# Altium footprint library ERA6ARB102P.PcbLib: 3 footprints
Each footprint in its own frame and in the unit in brackets; x right, y up, seen from the top. Pads: shape width x height; smd on the part's side, far side on the other; paste and mask are expansions set on the pad; w line width, h text height; cw(c..) or ccw(c..) is an arc to the next point about the centre after c.
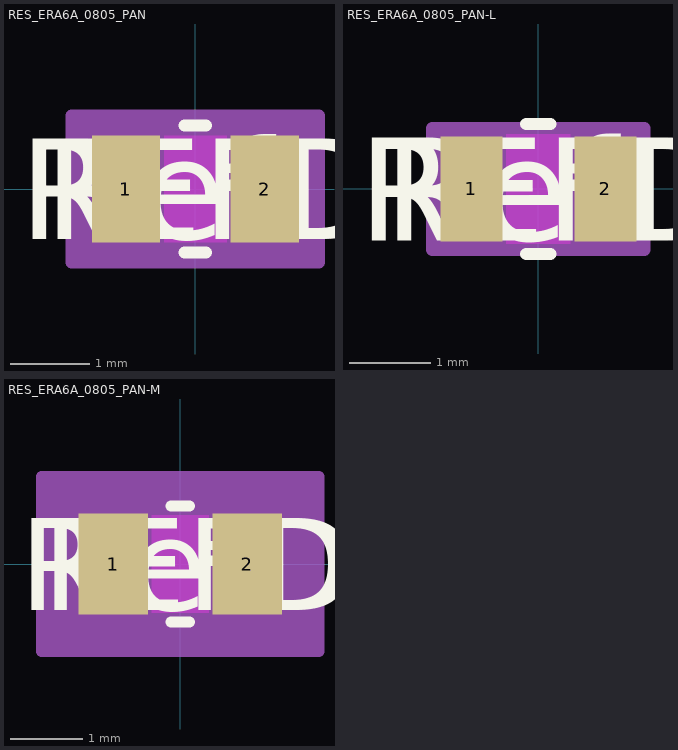
[diagram p0: the footprints below, top view; thin cyan lines are the x and y axes]

## RES_ERA6A_0805_PAN [mil]
pads (2):
  rect 33.87x53 smd paste+0 mask+0: 1(-34.44,0) 2(34.44,0)
Top Layer keep-out:
  region: -15.5,-24.5 -15.5,24.5 15.5,24.5 15.5,-24.5
Top Overlay:
  lines w6: -5.39,-31.5 5.39,-31.5 ; -5.39,31.5 5.39,31.5
  text "RefDes" at -75,-25 h50
  text "REFDES" at -87.5,-25 h50
Keep-Out Layer:
  region: -15.5,-26.5 -15.5,26.5 15.5,26.5 15.5,-26.5
Mechanical 13:
  lines w1: -43.5,-26.5 -43.5,26.5 ; -43.5,-26.5 -17.5,-26.5 -17.5,26.5 -43.5,26.5 ; -43.5,-26.5 43.5,-26.5 ; -43.5,-26.5 -43.5,26.5 ; -43.5,26.5 43.5,26.5 ; 43.5,-26.5 17.5,-26.5 17.5,26.5 43.5,26.5 ; 43.5,-26.5 43.5,26.5 ; 43.5,-26.5 43.5,26.5
  text "RefDes2" at -87.5,-25 h50
Mechanical 15:
  region: 61.37,-36.5 -61.37,-36.5 -61.37,36.5 61.37,36.5
  lines w6: -61.37,-36.5 -61.37,36.5 61.37,36.5 61.37,-36.5 -61.37,-36.5
3D body "RES_ERA6A_0805_PAN.step": height 24.02, standoff 0, extent -43.5,-26.5 43.5,26.5

## RES_ERA6A_0805_PAN-L [mil]
pads (2):
  rect 29.94x51.03 smd paste+0 mask+0: 1(-32.47,0) 2(32.47,0)
Top Layer keep-out:
  region: -15.5,-24.5 -15.5,24.5 15.5,24.5 15.5,-24.5
Top Overlay:
  lines w6: -5.85,-31.5 5.85,-31.5 ; -5.85,31.5 5.85,31.5
  text "RefDes" at -75,-25 h50
  text "REFDES" at -87.5,-25 h50
Keep-Out Layer:
  region: -15.5,-26.5 -15.5,26.5 15.5,26.5 15.5,-26.5
Mechanical 13:
  lines w1: -43.5,-26.5 -43.5,26.5 ; -43.5,-26.5 -17.5,-26.5 -17.5,26.5 -43.5,26.5 ; -43.5,-26.5 43.5,-26.5 ; -43.5,-26.5 -43.5,26.5 ; -43.5,26.5 43.5,26.5 ; 43.5,-26.5 17.5,-26.5 17.5,26.5 43.5,26.5 ; 43.5,-26.5 43.5,26.5 ; 43.5,-26.5 43.5,26.5
  text "RefDes2" at -87.5,-25 h50
Mechanical 15:
  region: 51.44,-29.52 -51.44,-29.52 -51.44,29.52 51.44,29.52
  lines w6: -51.44,-29.52 -51.44,29.52 51.44,29.52 51.44,-29.52 -51.44,-29.52
3D body "RES_ERA6A_0805_PAN.step": height 24.02, standoff 0, extent -43.5,-26.5 43.5,26.5

## RES_ERA6A_0805_PAN-M [mil]
pads (2):
  rect 37.81x54.97 smd paste+0 mask+0: 1(-36.41,0) 2(36.41,0)
Top Layer keep-out:
  region: -15.5,-24.5 -15.5,24.5 15.5,24.5 15.5,-24.5
Top Overlay:
  lines w6: -5.03,-31.5 5.03,-31.5 ; -5.03,31.5 5.03,31.5
  text "RefDes" at -75,-25 h50
  text "REFDES" at -87.5,-25 h50
Keep-Out Layer:
  region: -15.5,-26.5 -15.5,26.5 15.5,26.5 15.5,-26.5
Mechanical 13:
  lines w1: -43.5,-26.5 -43.5,26.5 ; -43.5,-26.5 -17.5,-26.5 -17.5,26.5 -43.5,26.5 ; -43.5,-26.5 43.5,-26.5 ; -43.5,-26.5 -43.5,26.5 ; -43.5,26.5 43.5,26.5 ; 43.5,-26.5 17.5,-26.5 17.5,26.5 43.5,26.5 ; 43.5,-26.5 43.5,26.5 ; 43.5,-26.5 43.5,26.5
  text "RefDes2" at -87.5,-25 h50
Mechanical 15:
  region: 75.31,-47.48 -75.31,-47.48 -75.31,47.48 75.31,47.48
  lines w6: -75.31,-47.48 -75.31,47.48 75.31,47.48 75.31,-47.48 -75.31,-47.48
3D body "RES_ERA6A_0805_PAN.step": height 24.02, standoff 0, extent -43.5,-26.5 43.5,26.5